# EAGLE library part KMMX-BSMT5SB-30TR (library DonB)
Kycon Micro USB Type B Female SMT
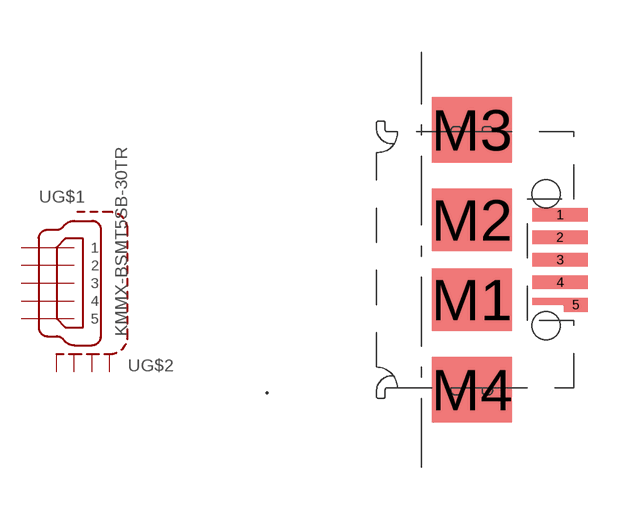
[diagram p1: symbol with the pads of BSMT5SB; footprint BSMT5SB]

Designator prefix -; gates G$1=MUSB5 G$2=SHIELD_4

## KMMX-BSMT5SB-30TR  [BSMT5SB]
1  G$1:1  pas
2  G$1:2  pas
3  G$1:3  pas
4  G$1:4  pas
5  G$1:5  pas
M1  G$2:S1  pas
M2  G$2:S2  pas
M3  G$2:S3  pas
M4  G$2:S4  pas

## Footprint BSMT5SB (pad centres in mm)
smd 1.6 x 0.4: 1 2.55,1.3; 2 2.55,0.65; 3 2.55,0; 4 2.55,-0.65
smd 0.7 x 0.4: 5 3,-1.3
smd 2.3 x 1.8: M1 0,-1.15; M2 0,1.15
smd 2.3 x 1.9: M3 0,3.75; M4 0,-3.75
hole 0.8 at 2.15,1.9
hole 0.8 at 2.15,-1.9